# Altium footprint library CAP_TH_10X14.PcbLib: 2 footprints
Each footprint in its own frame and in the unit in brackets; x right, y up, seen from the top. Pads: shape width x height; smd on the part's side, far side on the other; paste and mask are expansions set on the pad; w line width, h text height; cw(c..) or ccw(c..) is an arc to the next point about the centre after c.
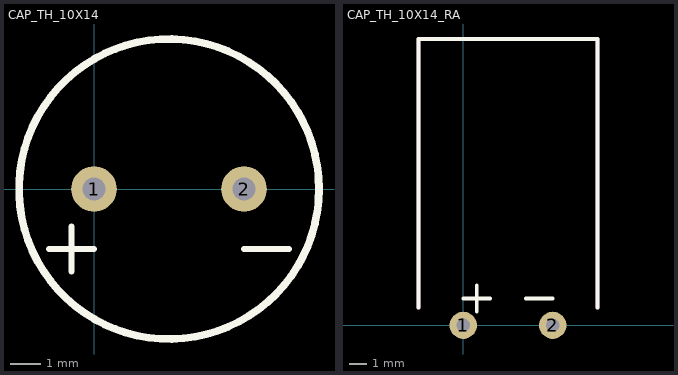
[diagram p0: the footprints below, top view; thin cyan lines are the x and y axes]

## CAP_TH_10X14 [mil] "Cap, Aluminum Electrolytic, 5mm Lead Spacing, 14mm Height, Vertical Mount"
height 551.18
pads (2):
  round 60 hole 30: 1(0,0) 2(196.85,0)
Top Overlay:
  circle w10: c98.43,0 r196.85
  lines w7.87: -59.06,-78.74 0,-78.74 ; -29.53,-108.27 -29.53,-49.21 ; 196.85,-78.74 255.91,-78.74
Comp Asy Info-Top:
  text ".Designator" at 39.37,9.84 h60
3D body: height 551.18, standoff 0, extent -98.42,-196.84 295.28,196.86

## CAP_TH_10X14_RA [mil] "Cap, Aluminum Electrolytic, 5mm Lead Spacing, 14mm Height, Right Angle Mount"
height 236.22
pads (2):
  round 60 hole 30: 1(0,0) 2(196.85,0)
Top Overlay:
  lines w7.87: -98.43,39.37 -98.43,629.92 295.28,629.92 295.28,39.37 ; 0,59.06 59.06,59.06 ; 29.53,29.53 29.53,88.58 ; 137.8,59.06 196.85,59.06
Comp Asy Info-Top:
  text ".Designator" at 78.74,452.76 h60
Courtyards/Models-Top:
  lines w7.87: -98.43,39.37 -98.43,629.92 295.28,629.92 295.28,39.37
3D body: height 393.7, standoff 0, extent -98.43,78.74 295.28,629.92